# Altium footprint library LMZM23600V3SILR.PcbLib: 1 footprints
Each footprint in its own frame and in the unit in brackets; x right, y up, seen from the top. Pads: shape width x height; smd on the part's side, far side on the other; paste and mask are expansions set on the pad; w line width, h text height; cw(c..) or ccw(c..) is an arc to the next point about the centre after c.
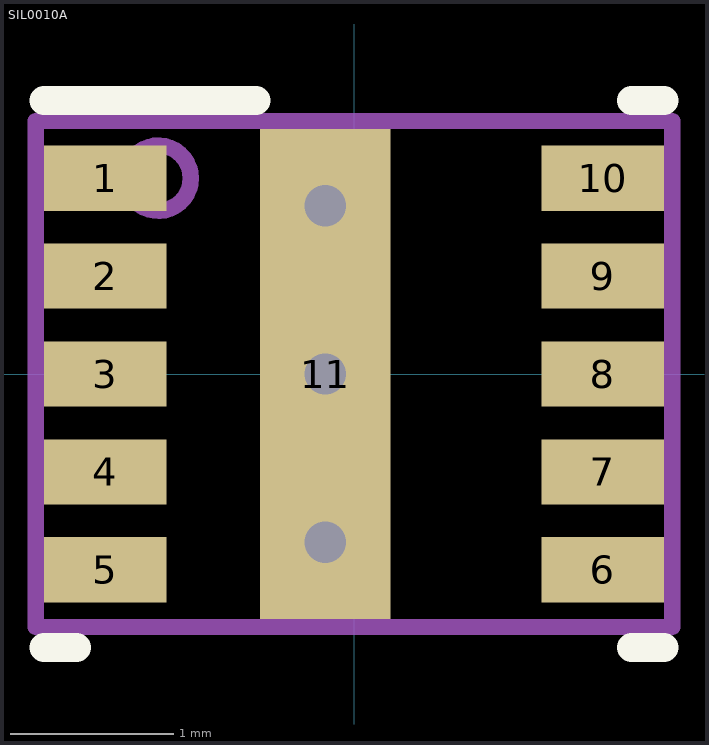
[diagram p0: the footprint, top view; thin cyan lines are the x and y axes]

## SIL0010A [mm]
pads (11):
  rect 0.75x0.4 smd paste-0.05 mask-0.051: 1(-1.525,1.2) 2(-1.525,0.6) 3(-1.525,0) 4(-1.525,-0.6) 5(-1.525,-1.2) 6(1.525,-1.2) 7(1.525,-0.6) 8(1.525,0) 9(1.525,0.6) 10(1.525,1.2)
  rect 0.8x3 smd paste-1.487 mask-0.051: 11(-0.175,0)
via -0.175,-1.03 diameter 0.508 hole 0.254
via -0.175,0 diameter 0.508 hole 0.254
via -0.175,1.03 diameter 0.508 hole 0.254
Top Overlay:
  lines w0.178: -1.9,-1.675 -1.7,-1.675 ; -1.9,1.675 -0.6,1.675 ; 1.7,-1.675 1.9,-1.675 ; 1.7,1.675 1.9,1.675
Top Paste:
  region: -0.524,-0.377 -0.525,-0.367 -0.525,0.367 -0.524,0.377 -0.521,0.386 -0.517,0.395 -0.511,0.402 -0.503,0.408 -0.495,0.413 -0.486,0.416 -0.476,0.416 0.126,0.416 0.136,0.416 0.145,0.413 0.153,0.408 0.161,0.402 0.167,0.395 0.171,0.386 0.174,0.377 0.175,0.367 0.175,-0.367 0.174,-0.377 0.171,-0.386 0.167,-0.395 0.161,-0.402 0.153,-0.408 0.145,-0.413 0.136,-0.416 0.126,-0.416 -0.476,-0.416 -0.486,-0.416 -0.495,-0.413 -0.503,-0.408 -0.511,-0.402 -0.517,-0.395 -0.521,-0.386
  region: -0.524,-1.407 -0.525,-1.398 -0.525,-0.663 -0.524,-0.653 -0.521,-0.644 -0.517,-0.635 -0.511,-0.628 -0.503,-0.622 -0.495,-0.617 -0.486,-0.614 -0.476,-0.613 0.126,-0.613 0.136,-0.614 0.145,-0.617 0.153,-0.622 0.161,-0.628 0.167,-0.635 0.171,-0.644 0.174,-0.653 0.175,-0.663 0.175,-1.398 0.174,-1.407 0.171,-1.416 0.167,-1.425 0.161,-1.432 0.153,-1.438 0.145,-1.443 0.136,-1.446 0.126,-1.446 -0.476,-1.446 -0.486,-1.446 -0.495,-1.443 -0.503,-1.438 -0.511,-1.432 -0.517,-1.425 -0.521,-1.416
  region: -0.524,0.653 -0.525,0.663 -0.525,1.398 -0.524,1.407 -0.521,1.416 -0.517,1.425 -0.511,1.432 -0.503,1.438 -0.495,1.443 -0.486,1.446 -0.476,1.446 0.126,1.446 0.136,1.446 0.145,1.443 0.153,1.438 0.161,1.432 0.167,1.425 0.171,1.416 0.174,1.407 0.175,1.398 0.175,0.663 0.174,0.653 0.171,0.644 0.167,0.635 0.161,0.628 0.153,0.622 0.145,0.617 0.136,0.614 0.126,0.613 -0.476,0.613 -0.486,0.614 -0.495,0.617 -0.503,0.622 -0.511,0.628 -0.517,0.635 -0.521,0.644
Mechanical 13:
  circle w0.1: c-1.2,1.2 r0.2
  lines w0.1: -1.95,-1.55 1.95,-1.55 1.95,1.55 -1.95,1.55 -1.95,-1.55
3D body "SIL0010A.stp": height 1.49, standoff 0, extent -1.9,-1.5 1.9,1.5